# EAGLE library part WE-POE_ER14.5/6 (library Heep)
Power over Ethernet Transformer Characteristics Flyback transformer designed for PoE PDs Input voltage: 36 V to 57 V Switching frequencies: 200–500 kHz Operating temperature: –40 ºC to +125 ºC Insulation test voltage: 1.5 kVAC/1 min Different output powers and voltages available Applications Suitable for PoE IC’s like LTC4267, TPS 23750, TPS 23770, LM5070, LM 5071, LM 5072 <http://katalog.we-online.de/media/images/v2/Family_we-poe_uebertrager_power_over_ethernet.jpg> Details see: http://katalog.we-online.de/en/pbs/WE-PoE? Updated by Dan Xu 2014-07-08 2014 (C) Wurth Elektronik
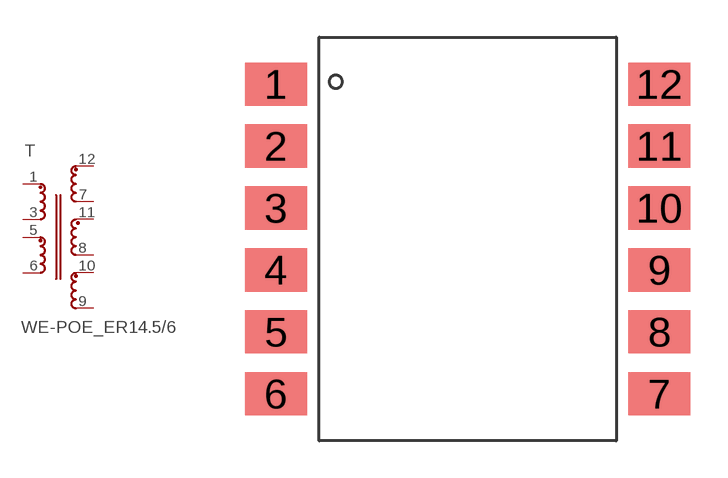
[diagram p4: symbol with the pads of WE_ER14.5/6_SMD_12PIN; footprint WE_ER14.5/6_SMD_12PIN]

Designator prefix T

## WE-POE_ER14.5/6_749119218, WE-POE_ER14.5/6_749119233, WE-POE_ER14.5/6_749119250, WE-POE_ER14.5/6_7491192912  [WE_ER14.5/6_SMD_12PIN]
1  1  pas
3  2  pas
5  3  pas
6  4  pas
7  6  pas
8  8  pas
9  10  pas
10  9  pas
11  7  pas
12  5  pas

## Footprint WE_ER14.5/6_SMD_12PIN (pad centres in mm)
Transformer, ER14.5/6 SMD 12Pin
smd 2.5 x 1.75: 1 -7.75,6.25; 2 -7.75,3.75; 3 -7.75,1.25; 4 -7.75,-1.25; 5 -7.75,-3.75; 6 -7.75,-6.25; 7 7.75,-6.25; 8 7.75,-3.75; 9 7.75,-1.25; 10 7.75,1.25; 11 7.75,3.75; 12 7.75,6.25